# EAGLE library part ETHERNET_ADAPTER (library Subsystem Main)
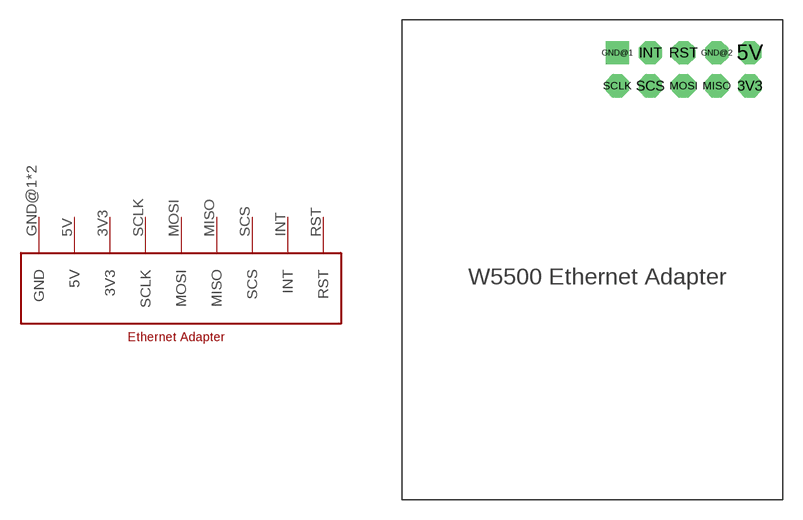
[diagram p3: symbol with the pads of ETHERNET_ADAPTER; footprint ETHERNET_ADAPTER]

Designator prefix -

## ETHERNET_ADAPTER  [ETHERNET_ADAPTER]
3V3  3V3
5V  5V
GND@1  GND
GND@2  GND
INT  INT
MISO  MISO
MOSI  MOSI
RST  RST
SCLK  SCLK
SCS  SCS

## Footprint ETHERNET_ADAPTER (pad centres in mm)
drill 0.9 pad 1.778 octagon: 3V3 5.08,-1.27; 5V 5.08,1.27; GND@2 2.54,1.27; INT -2.54,1.27; MISO 2.54,-1.27; MOSI 0,-1.27; RST 0,1.27; SCLK -5.08,-1.27; SCS -2.54,-1.27
drill 0.9 pad 1.778 square: GND@1 -5.08,1.27